# Altium schematic symbol library Trimming Potentiometers SMD.SchLib: 4 symbols
Pins are listed as number, name and electrical type; pins without a type are passive.

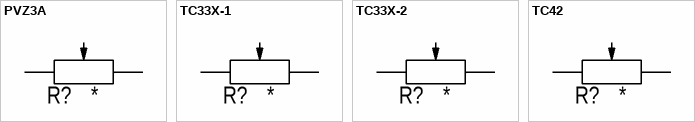
[diagram p0: symbols PVZ3A to TC42]

## PVZ3A
designator R?, comment SMD Trimming Potentiometer  (value not drawn)
Manufacture: Murata; Model: PVZ3A; ComponentLink1Description: PVZ3A Product Page; ComponentLink1URL: https://www.murata.com/en-eu/products/productdetail.aspx?cate=cgsubTrimmPoten&partno=PVZ3H221C01R00; Value: *
footprint PVZ3A (Trimer Resistor PVZ3A 3.1X3.6mm)
pins: 1 "CCW", 2 "Wiper", 3 "CW"

## TC33X-1
designator R?, comment *SMD Trimming Potentiometers TC33X-1 3.6X3.8mm, Continuous Rotation  (value not drawn)
SMD Trimming Potentiometers TC33X-1 3.6X3.8mm (Bourns), Continuous Rotation; Manufacture: Bourns; Model: TC33X-1; ComponentLink1Description: TC33X; ComponentLink1URL: https://www.bourns.com/docs/product-datasheets/tc33.pdf; Part Number: *; Value: *
footprint TC33X-1 (Trimming Potentiometers TC33X-1 3.6X3.8mm (Bourns), Continuous Rotation)
pins: 1 Counterclockwise Pin "Counter Clock Wise Pin", 2 Wiper "Wiper Pin", 3 Clockwise "Clock Wise Pin"

## TC33X-2
designator R?, comment SMD Trimming Potentiometers TC33X-1 3.6X3.8mm, Rotational Stop  (value not drawn)
SMD Trimming Potentiometers TC33X-1 3.6X3.8mm (Bourns), Rotational Stop; Model: TC33X-2; Manufacture: Bourns; ComponentLink1Description: TC33X; ComponentLink1URL: https://www.bourns.com/docs/product-datasheets/tc33.pdf; Part Number: *; Value: *
footprint TC33x-2 (Trimming Potentiometers TC33X-2 3.6X3.8mm (Bourns), Rotational Stop)
pins: 1 Counterclockwise Pin "Counter Clock Wise Pin", 2 Wiper "Wiper Pin", 3 Clockwise "Clock Wise Pin"

## TC42
designator R?, comment SMD Trimming Potentiometers TC42 2.2X2.8mm  (value not drawn)
SMD Trimming Potentiometers TC42 2.2X2.8mm (Bourns); Manufacture: Bourns; Model: TC42; ComponentLink1Description: TC42; ComponentLink1URL: https://www.bourns.com/docs/product-datasheets/tc42.pdf; Part Number: *; Value: *
footprint TC42 (Trimming Potentiometers PVZ3A 2.2X2.6mm (Bourns))
pins: 1 Counterclockwise Pin "Counter Clock Wise Pin", 2 Wiper "Wiper Pin", 3 Clockwise "Clock Wise Pin"